# Altium schematic symbol library 0.2R.SchLib: 1 symbol
Pins are listed as number, name and electrical type; pins without a type are passive.

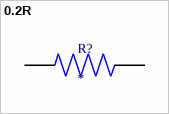
[diagram p0: symbol 0.2R]

## 0.2R
designator R?
MP: ERJ-U6SFR20V; Package: None; Price: None; Value: *; Availability: Unavailable
footprint 0.2R
pins: 1, 2